# EAGLE library part DRV8833RTYR (library DRV8833RTYR)
2A Low Voltage Dual Brushed DC or Single Bipolar Stepper Motor Driver (PWM Ctrl) Source: Datasheet <http://www.ti.com/lit/gpn/drv8833>
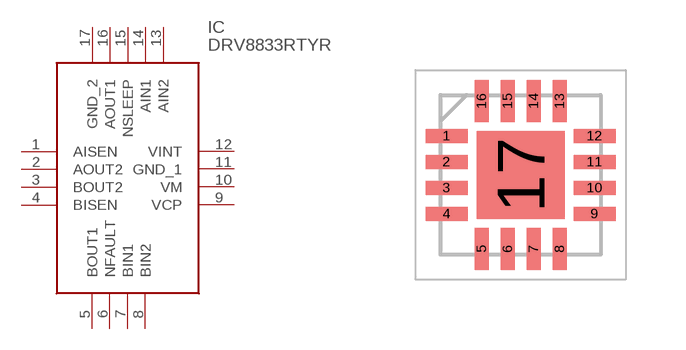
[diagram p0: symbol with the pads of QFN65P400X400X80-17N; footprint QFN65P400X400X80-17N]

Designator prefix IC

## DRV8833RTYR (Description: 2A Low Voltage Dual Brushed DC or Single Bipolar Stepper Motor Driver (PWM Ctrl); Height: 0.8mm; Manufacturer_Name: Texas Instruments; Manufacturer_Part_Number: DRV8833RTYR; Mouser_Part_Number: 595-DRV8833RTYR; Mouser_Price-Stock: https://www.mouser.com/Search/Refine.aspx?Keyword=595-DRV8833RTYR)  [QFN65P400X400X80-17N]
1  AISEN
2  AOUT2
3  BOUT2
4  BISEN
5  BOUT1
6  NFAULT
7  BIN1
8  BIN2
9  VCP
10  VM
11  GND_1
12  VINT
13  AIN2
14  AIN1
15  NSLEEP
16  AOUT1
17  GND_2

## Footprint QFN65P400X400X80-17N (pad centres in mm)
RTY (S-PWQFN-N16)_EP2.1
smd 1.05 x 0.35: 1 -1.85,0.975; 2 -1.85,0.325; 3 -1.85,-0.325; 4 -1.85,-0.975; 9 1.85,-0.975; 10 1.85,-0.325; 11 1.85,0.325; 12 1.85,0.975
smd 0.35 x 1.05: 5 -0.975,-1.85; 6 -0.325,-1.85; 7 0.325,-1.85; 8 0.975,-1.85; 13 0.975,1.85; 14 0.325,1.85; 15 -0.325,1.85; 16 -0.975,1.85
smd 2.2 x 2.2: 17 0,0